# Altium footprint library SnapEDApcb.PcbLib: 1 footprints
Each footprint in its own frame and in the unit in brackets; x right, y up, seen from the top. Pads: shape width x height; smd on the part's side, far side on the other; paste and mask are expansions set on the pad; w line width, h text height; cw(c..) or ccw(c..) is an arc to the next point about the centre after c.
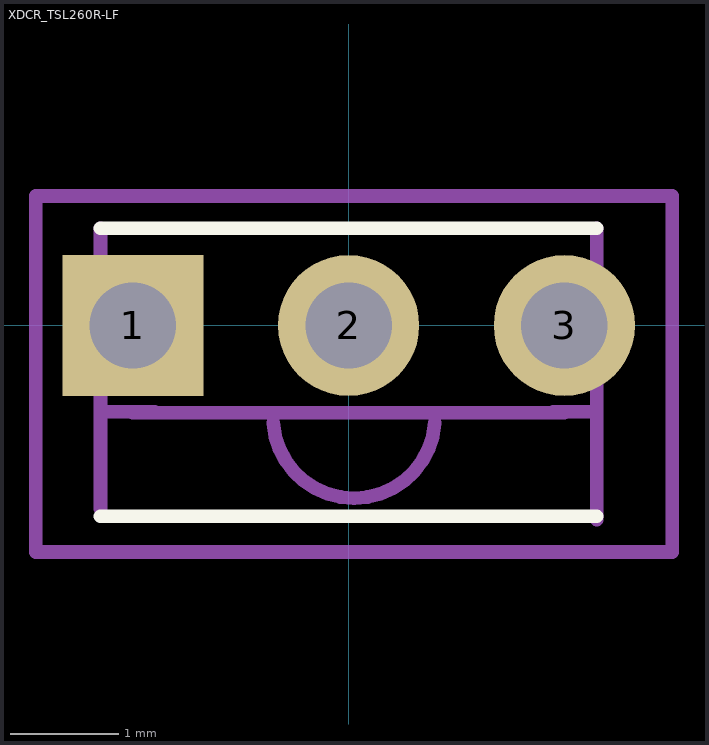
[diagram p0: the footprint, top view; thin cyan lines are the x and y axes]

## XDCR_TSL260R-LF [mm]
pads (3):
  rect 1.308x1.308 hole 0.8: 1(-2,0)
  round 1.308 hole 0.8: 2(0,0) 3(2,0)
Top Overlay:
  lines w0.127: -2.3,-1.77 2.3,-1.77 ; -2.3,0.9 2.3,0.9
Mechanical 13:
  lines w0.127: -2.3,-1.7 -2.3,-0.8 ; -2.3,0.9 -2.3,-0.8 ; -2,-0.81 2,-0.81 ; -1.8,-0.8 -2.3,-0.8 ; -0.7,-0.902 ccw(c0.05,-0.85) 0.8,-0.902 ; 1.9,-0.8 2.3,-0.8 ; 2.3,-1.8 2.3,-0.8 ; 2.3,0.9 2.3,-0.8
Mechanical 15:
  lines w0.127: -2.9,-2.1 3,-2.1 3,1.2 -2.9,1.2 -2.9,-2.1